# Altium footprint library PQFN50P400X400X60-28N.PcbLib: 1 footprints
Each footprint in its own frame and in the unit in brackets; x right, y up, seen from the top. Pads: shape width x height; smd on the part's side, far side on the other; paste and mask are expansions set on the pad; w line width, h text height; cw(c..) or ccw(c..) is an arc to the next point about the centre after c.
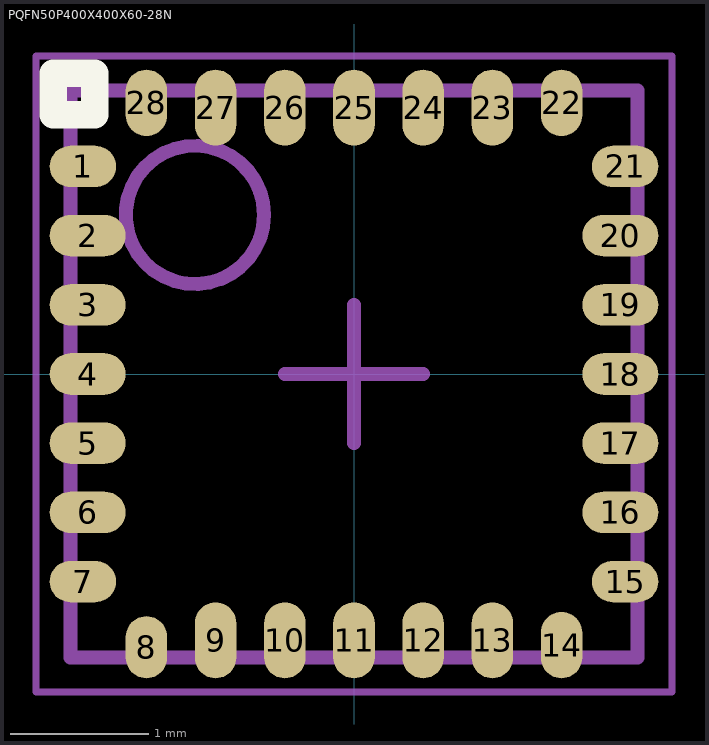
[diagram p0: the footprint, top view; thin cyan lines are the x and y axes]

## PQFN50P400X400X60-28N [mm] "PQFN, 28-Leads, Body 4.00x4.00mm, Pitch 0.50mm, IPC Medium Density"
height 0.6
pads (28):
  oval 0.48x0.3 smd mask+0.05: 1(-1.96,1.5) 7(-1.96,-1.5) 15(1.96,-1.5) 21(1.96,1.5)
  oval 0.55x0.3 smd mask+0.05: 2(-1.925,1) 3(-1.925,0.5) 4(-1.925,0) 5(-1.925,-0.5) 6(-1.925,-1) 16(1.925,-1) 17(1.925,-0.5) 18(1.925,0) 19(1.925,0.5) 20(1.925,1)
  oval 0.3x0.45 smd mask+0.05: 8(-1.5,-1.975)
  oval 0.3x0.55 smd mask+0.05: 9(-1,-1.925) 10(-0.5,-1.925) 11(0,-1.925) 12(0.5,-1.925) 13(1,-1.925) 23(1,1.925) 24(0.5,1.925) 25(0,1.925) 26(-0.5,1.925) 27(-1,1.925)
  oval 0.3x0.48 smd mask+0.05: 14(1.5,-1.96) 22(1.5,1.96) 28(-1.5,1.96)
Top Overlay:
  lines w0.2: -2.175,1.875 -2.175,2.175 -1.875,2.175 -1.875,1.875 -2.175,1.875
Mechanical 2:
  circle w0.1: c-1.15,1.15 r0.5
  lines w0.1: -2.05,-2.05 -2.05,2.05 2.05,2.05 2.05,-2.05 -2.05,-2.05
Mechanical 4:
  lines w0.05: -2.3,-2.3 -2.3,2.3 2.3,2.3 2.3,-2.3 -2.3,-2.3
  lines w0.1: -0.5,0 0.5,0 ; 0,-0.5 0,0.5
3D body "PQFN50P400X400X60-28N.step": height 0.6, standoff 0, extent -2.05,-2.05 2.05,2.05